# Altium schematic symbol library RS485_422.SchLib: 1 symbol
Pins are listed as number, name and electrical type; pins without a type are passive.

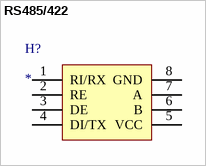
[diagram p0: symbol RS485/422]

## RS485/422
designator H?
footprint RS485/422
pins: 1 RI/RX, 2 RE, 3 DE, 4 DI/TX, 5 VCC, 6 B, 7 A, 8 GND